# EAGLE library part BC857BV (library EspressoParts)
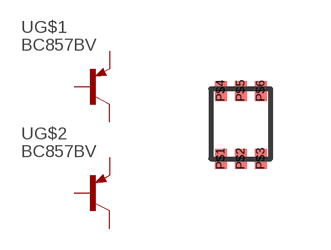
[diagram p1: symbol with the pads of SOT-563; footprint SOT-563]

Designator prefix -; gates G$1=PNP G$2=PNP

## BC857BV  [SOT-563]
P$1  G$2:C  pas
P$2  G$2:B  pas
P$3  G$2:E  pas
P$4  G$1:C  pas
P$5  G$1:B  pas
P$6  G$1:E  pas

## Footprint SOT-563 (pad centres in mm)
smd 0.3 x 0.5: P$1 0,0; P$2 0.5,0; P$3 1,0; P$4 0,1.7; P$5 0.5,1.7; P$6 1,1.7